# Altium schematic symbol library FLASH.SchLib: 7 symbols
Pins are listed as number, name and electrical type; pins without a type are passive.

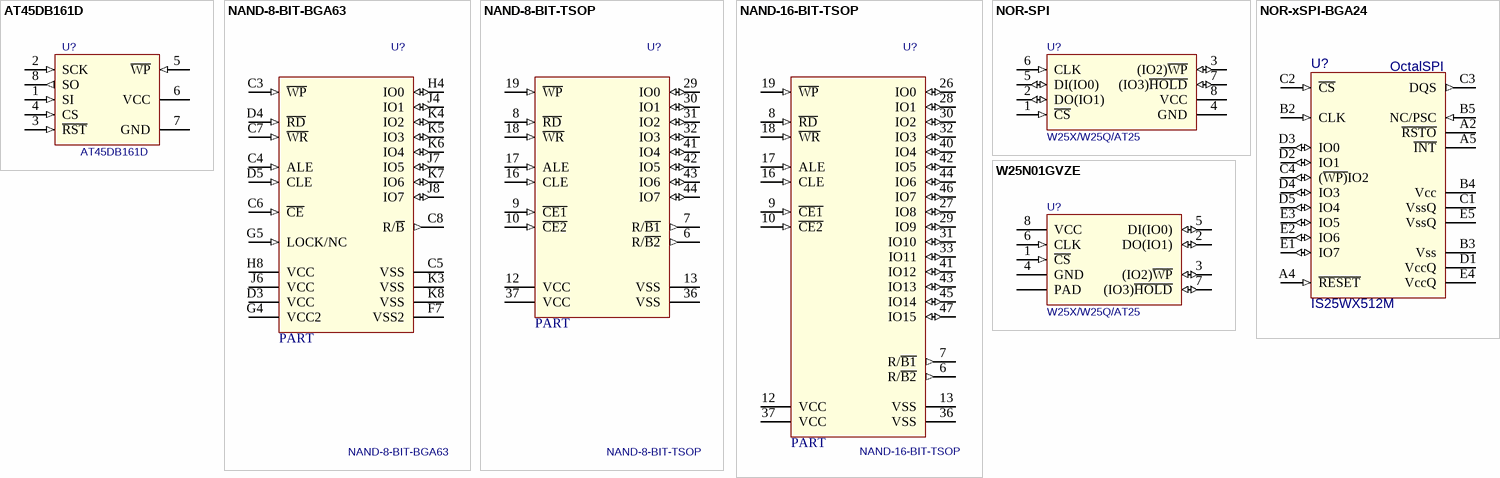
[diagram p0: symbols AT45DB161D to W25N01GVZE]

## AT45DB161D
designator U?
value: *
footprint SOIC8WA
pins: 1 SI (in), 2 SCK (in), 3 ~{RST} (in), 4 CS (in), 5 ~{WP} (in), 6 VCC (power), 7 GND (power), 8 SO (out)

## NAND-8-BIT-BGA63
designator U?  value PART
NAND Flash
pins: C3 ~{WP} (in), C4 ALE (in), C5 VSS (power), C6 ~{CE} (in), C7 ~{WR} (in), C8 R/~{B} (out), D3 VCC (power), D4 ~{RD} (in), D5 CLE (in), F7 VSS2 (power), G4 VCC2 (power), G5 LOCK/NC (in), H4 IO0 (io), H8 VCC (power), J4 IO1 (io), J6 VCC (power), J7 IO5 (io), J8 IO7 (io), K3 VSS (power), K4 IO2 (io), K5 IO3 (io), K6 IO4 (io), K7 IO6 (io), K8 VSS (power)

## NAND-8-BIT-TSOP
designator U?  value PART
NAND Flash
pins: 6 R/~{B2} (out), 7 R/~{B1} (out), 8 ~{RD} (in), 9 ~{CE1} (in), 10 ~{CE2} (in), 12 VCC (power), 13 VSS (power), 16 CLE (in), 17 ALE (in), 18 ~{WR} (in), 19 ~{WP} (in), 29 IO0 (io), 30 IO1 (io), 31 IO2 (io), 32 IO3 (io), 36 VSS (power), 37 VCC (power), 41 IO4 (io), 42 IO5 (io), 43 IO6 (io), 44 IO7 (io)

## NAND-16-BIT-TSOP
designator U?  value PART
NAND Flash
pins: 6 R/~{B2} (out), 7 R/~{B1} (out), 8 ~{RD} (in), 9 ~{CE1} (in), 10 ~{CE2} (in), 12 VCC (power), 13 VSS (power), 16 CLE (in), 17 ALE (in), 18 ~{WR} (in), 19 ~{WP} (in), 26 IO0 (io), 27 IO8 (io), 28 IO1 (io), 29 IO9 (io), 30 IO2 (io), 31 IO10 (io), 32 IO3 (io), 33 IO11 (io), 36 VSS (power), 37 VCC (power), 40 IO4 (io), 41 IO12 (io), 42 IO5 (io), 43 IO13 (io), 44 IO6 (io), 45 IO14 (io), 46 IO7 (io), 47 IO15 (io)

## NOR-SPI
designator U?, comment W25X/W25Q/AT25
SPI/QSPI NOR flash; value: *
footprint SO-8_L (8-Pin Small Outline Integrated Circuit 1.27 mm Pitch, IPC High Density)
footprint SO-8-WA
pins: 1 ~{CS} (in), 2 DO(IO1) (io), 3 (IO2)~{WP} (io), 4 GND (power), 5 DI(IO0) (io), 6 CLK (in), 7 (IO3)~{HOLD} (io), 8 VCC (power)

## NOR-xSPI-BGA24
designator U?, comment OctalSPI  value IS25WX512M
pins: A2 ~{RSTO} (oc), A4 ~{RESET} (in), A5 ~{INT} (oc), B2 CLK (in), B3 Vss (power), B4 Vcc (power), B5 NC/PSC (in), C1 VssQ (power), C2 ~{CS} (in), C3 DQS (out), C4 (~{WP)}IO2 (io), D1 VccQ (power), D2 IO1 (io), D3 IO0 (io), D4 IO3 (io), D5 IO4 (io), E1 IO7 (io), E2 IO6 (io), E3 IO5 (io), E4 VccQ (power), E5 VssQ (power)

## W25N01GVZE
designator U?, comment W25X/W25Q/AT25
SPI/QSPI NOR flash; Value: W25N01GVZE
footprint WSON-8-8x6 (ZE) (WSON, 8-Leads, Body 6.00x8.00mm, Pitch 1.27mm, Thermal Pad 4.30x3.40mm, IPC Medium Density)
pins: 1 ~{CS} (in), 2 DO(IO1) (io), 3 (IO2)~{WP} (io), 4 GND (power), 5 DI(IO0) (io), 6 CLK (in), 7 (IO3)~{HOLD} (io), 8 VCC (power), 9 PAD (power)